# Altium schematic symbol library Transformer_3.SchLib: 1 symbol
Pins are listed as number, name and electrical type; pins without a type are passive.

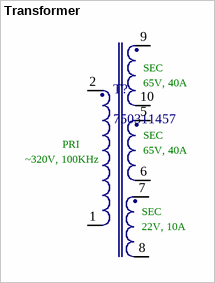
[diagram p0: symbol Transformer]

## Transformer
designator T?, comment 750311457
Transformer; Manufacturer: Wuerth Elektronik; Ui: 36V; ComponentLink1Description: Manufacturer URL; ComponentLink2Description: Datasheet; ComponentLink1URL: http://www.we-online.com; PartNumber: 750311457; PackageReference: EP13; ComponentLink2URL: http://katalog.we-online.de/pbs/datasheet/750311457.pdf
footprint Transformer
pins: 1, 2, 5, 6, 7, 8, 9, 10
text: SEC; 65V, 40A; PRI; ~320V, 100KHz; 22V, 10A